# Altium footprint library 野火_F407霸天虎_V2_0_PCB封装库_AD格式.PcbLib: 63 footprints (part 2 of 4)
Each footprint in its own frame and in the unit in brackets; x right, y up, seen from the top. Pads: shape width x height; smd on the part's side, far side on the other; paste and mask are expansions set on the pad; w line width, h text height; cw(c..) or ccw(c..) is an arc to the next point about the centre after c.
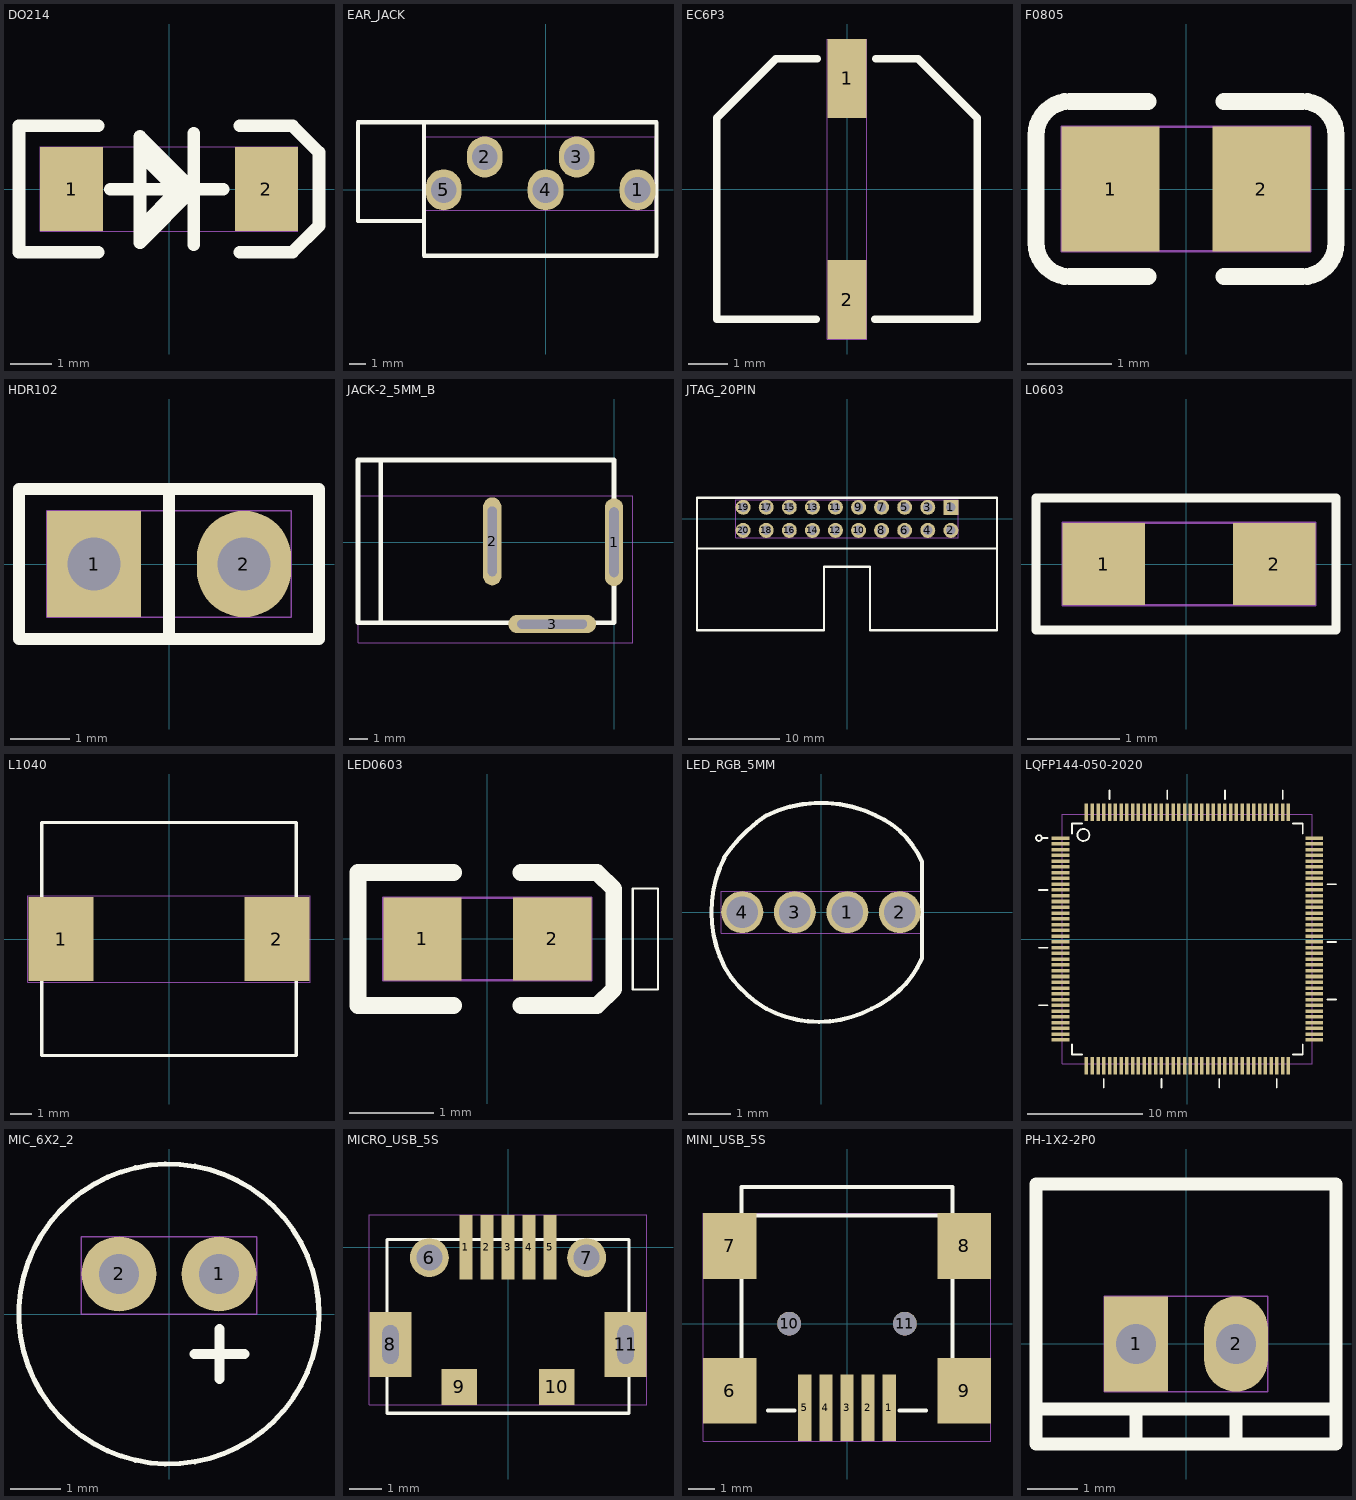
[diagram p1: the footprints below, top view; thin cyan lines are the x and y axes]

## DO214 [mil]
pads (2):
  rect 60x80 smd mask+2: 1(-92.5,0) 2(92.5,0)
Top Overlay:
  lines w1: -27.58,-25.06 -27.58,22.87 -1.5,22.87 -1.5,-25.06 -27.58,-25.06
  lines w12: -67.5,-60 -142.5,-60 -142.5,60 -67.5,60 ; -55.58,-0.13 51.42,-0.13 ; -27.58,33.87 7.79,-1.51 -25.84,-35.13 ; 23.42,-53.13 23.42,52.87 ; 67.5,-60 117.42,-60 142.5,-34.92 142.5,34.87 117.37,60 67.5,60 ; -27.58,-51.13 23.42,-0.13 23.42,-1.13 -27.58,49.87 -27.58,-51.13
Top Assembly:
  text "D3" at 38.93,25 h50
Mechanical 20:
  lines w1: -122.5,-40 122.5,-40 122.5,40 -122.5,40 -122.5,-40

## EAR_JACK [mil]
pads (5):
  oval 86x98 hole 62 mask+2: 1(220.47,0) 2(-145.67,78.74) 3(74.8,78.74) 4(0,0) 5(-244.1,0)
Top Overlay:
  lines w10: -294.49,-75.03 -449.49,-75.03 -449.49,161.97 -294.49,161.97 ; -291.49,-158.03 265.51,-158.03 265.51,161.97 -291.49,161.97 -291.49,-158.03
Top Assembly:
  text "J20" at 57.25,25 h50
Mechanical 20:
  lines w1: -287.1,-49 263.47,-49 263.47,127.74 -287.1,127.74 -287.1,-49

## EC6P3 [mm]
pads (2):
  rect 1x2 smd mask+0.051: 1(0,2.8) 2(0,-2.8)
Top Overlay:
  lines w0.2: -0.787,-3.3 -3.3,-3.3 -3.3,1.8 -1.8,3.3 -0.762,3.3 ; 0.711,-3.3 3.3,-3.3 3.3,1.8 1.8,3.3 0.737,3.3
Top Assembly:
  text "C98" at 1.621,0.635 h1.27
Mechanical 20:
  lines w0.025: -0.5,-3.8 0.5,-3.8 0.5,3.8 -0.5,3.8 -0.5,-3.8

## F0805 [mm]
pads (2):
  rect 1.16x1.47 smd mask+0.051: 1(-0.89,0) 2(0.89,0)
Top Overlay:
  lines w0.2: -0.45,-1.035 -1.37,-1.035 cw(c-1.37,-0.635) -1.77,-0.635 -1.77,0.635 cw(c-1.37,0.635) -1.37,1.035 -0.45,1.035 ; 0.45,-1.035 1.37,-1.035 ccw(c1.37,-0.635) 1.77,-0.635 1.77,0.635 ccw(c1.37,0.635) 1.37,1.035 0.45,1.035
Top Assembly:
  text "F1" at -0.617,-0.635 h1.27
Mechanical 20:
  lines w0.025: -1.47,-0.735 1.47,-0.735 1.47,0.735 -1.47,0.735 -1.47,-0.735

## HDR102 [mil]
pads (2):
  rect 62.99x70.87 / inner oval 62.99x70.87 / far side rect 62.99x70.87 hole 35.43 mask+1.97: 1(-50,0)
  oval 62.99x70.87 hole 35.43 mask+1.97: 2(50,0)
Top Overlay:
  lines w8: 0,-50 0,50 ; -100,-50 100,-50 100,50 -100,50 -100,-50
Top Assembly:
  text "J85" at -57.25,-25 h50
Mechanical 20:
  lines w1: -81.5,-35.43 81.5,-35.43 81.5,35.43 -81.5,35.43 -81.5,-35.43

## JACK-2_5MM_B [mm]
pads (3):
  oval 1x4.81 / inner oval 1x4.81 / far side oval 2x4.81 hole 0.5 slot 3.81 at 90 deg mask+0.05: 1(0,0) 2(-6.659,0.046)
  oval 4.81x1 / inner oval 4.81x1 / far side oval 4.81x2 hole 0.5 slot 3.81 at 0 deg mask+0.05: 3(-3.383,-4.475)
Top Overlay:
  lines w0.254: -12.755,-4.348 -12.755,4.501 ; -14,-4.399 -14,4.501 0,4.501 0,-4.399 -14,-4.399
Top Assembly:
  text "JACK1" at -2.446,-0.635 h1.27
Mechanical 20:
  lines w0.025: -14,-5.491 1.016,-5.491 1.016,2.535 -14,2.535 -14,-5.491

## JTAG_20PIN [mil]
pads (20):
  rect 65x65 hole 40 mask+2: 1(450,50)
  round 65 hole 40 mask+2: 2(450,-50) 3(350,50) 4(350,-50) 5(250,50) 6(250,-50) 7(150,50) 8(150,-50) 9(50,50) 10(50,-50) 11(-50,50) 12(-50,-50) 13(-150,50) 14(-150,-50) 15(-250,50) 16(-250,-50) 17(-350,50) 18(-350,-50) 19(-450,50) 20(-450,-50)
Top Overlay:
  lines w10: -650,-128.74 650,-128.74 ; -650,-483.07 -100,-483.07 -100,-207.48 100,-207.48 100,-483.07 650,-483.07 650,91.26 -650,91.26 -650,-483.07
Top Assembly:
  text "J45" at 57.25,25 h50
Mechanical 20:
  lines w1: -482.5,-82.5 482.5,-82.5 482.5,82.5 -482.5,82.5 -482.5,-82.5

## L0603 [mil]
pads (2):
  rect 35x35 smd mask+1.97: 1(-35,0) 2(37.49,0)
Top Overlay:
  lines w3.94: -63.74,-28 63.74,-28 63.74,28 -63.74,28 -63.74,-28
Top Assembly:
  text "L3" at -33.69,-25 h50
Mechanical 20:
  lines w1: -52.5,-17.5 54.99,-17.5 54.99,17.5 -52.5,17.5 -52.5,-17.5

## L1040 [mm]
pads (2):
  rect 3x3.9 smd mask+0.05: 1(-5,0) 2(5,0)
Top Overlay:
  lines w0.152: -5.9,-5.4 5.9,-5.4 5.9,5.4 -5.9,5.4 -5.9,-5.4
Top Assembly:
  text "L1" at 0.584,0.635 h1.27
Mechanical 20:
  lines w0.025: -6.55,-2 6.55,-2 6.55,2 -6.55,2 -6.55,-2

## LED0603 [mil]
pads (2):
  rect 36.61x38.58 smd mask+1.97: 1(-30.31,0) 2(30.32,0)
Top Overlay:
  lines w1: 67.91,-23.62 67.91,23.62 79.73,23.62 79.73,-23.62 67.91,-23.62
  lines w7.87: -15.75,-31.1 -60.43,-31.1 -60.43,31.1 -15.75,31.1 ; 15.75,-31.1 51.18,-31.1 59.06,-23.5 59.06,23.5 51.18,31.1 15.75,31.1
Top Assembly:
  text "D49" at 59.99,25 h50
Mechanical 20:
  lines w1: -48.62,-19.29 48.62,-19.29 48.62,19.29 -48.62,19.29 -48.62,-19.29

## LED_RGB_5MM [mm]
pads (4):
  round 1 hole 0.75 mask+0.05: 1(0.625,0) 2(1.875,0) 3(-0.625,0) 4(-1.875,0)
Top Overlay:
  lines w0.1: -2.301,1.297 ccw(c0.3,0) -2.299,-1.302 ; -2.299,-1.301 ccw(c0.05,0.05) -1.301,-2.299 ; -2.299,1.302 cw(c0.65,-0.65) -1.297,2.302 ; -1.3,-2.3 ccw(c-0.05,0.05) 1.2,-2.3 ; -1.299,2.301 cw(c0,-0.35) 1.303,2.298 ; 1.202,-2.299 ccw(c0.25,-0.15) 2.401,-1.098 ; 1.298,2.301 cw(c0.45,0.35) 2.399,1.202 ; 2.4,-1.1 2.4,1.2
Top Assembly:
  text "D6" at -0.958,-0.635 h1.27
Mechanical 20:
  lines w0.025: -2.375,-0.5 2.375,-0.5 2.375,0.5 -2.375,0.5 -2.375,-0.5

## LQFP144-050-2020 [mil]
pads (144):
  rect 60x12 smd mask+2: 1(-433.07,344.49) 2(-433.07,324.8) 3(-433.07,305.12) 4(-433.07,285.43) 5(-433.07,265.75) 6(-433.07,246.06) 7(-433.07,226.38) 8(-433.07,206.69) 9(-433.07,187.01) 10(-433.07,167.32) 11(-433.07,147.64) 12(-433.07,127.95) 13(-433.07,108.27) 14(-433.07,88.58) 15(-433.07,68.9) 16(-433.07,49.21) 17(-433.07,29.53) 18(-433.07,9.84) 19(-433.07,-9.84) 20(-433.07,-29.53) 21(-433.07,-49.21) 22(-433.07,-68.9) 23(-433.07,-88.58) 24(-433.07,-108.27) 25(-433.07,-127.95) 26(-433.07,-147.64) 27(-433.07,-167.32) 28(-433.07,-187.01) 29(-433.07,-206.69) 30(-433.07,-226.38) 31(-433.07,-246.06) 32(-433.07,-265.75) 33(-433.07,-285.43) 34(-433.07,-305.12) 35(-433.07,-324.8) 36(-433.07,-344.49) 73(433.07,-344.49) 74(433.07,-324.8) 75(433.07,-305.12) 76(433.07,-285.43) 77(433.07,-265.75) 78(433.07,-246.06) 79(433.07,-226.38) 80(433.07,-206.69) 81(433.07,-187.01) 82(433.07,-167.32) 83(433.07,-147.64) 84(433.07,-127.95) 85(433.07,-108.27) 86(433.07,-88.58) 87(433.07,-68.9) 88(433.07,-49.21) 89(433.07,-29.53) 90(433.07,-9.84) 91(433.07,9.84) 92(433.07,29.53) 93(433.07,49.21) 94(433.07,68.9) 95(433.07,88.58) 96(433.07,108.27) 97(433.07,127.95) 98(433.07,147.64) 99(433.07,167.32) 100(433.07,187.01) 101(433.07,206.69) 102(433.07,226.38) 103(433.07,246.06) 104(433.07,265.75) 105(433.07,285.43) 106(433.07,305.12) 107(433.07,324.8) 108(433.07,344.49)
  rect 12x60 smd mask+2: 37(-344.49,-433.07) 38(-324.8,-433.07) 39(-305.12,-433.07) 40(-285.43,-433.07) 41(-265.75,-433.07) 42(-246.06,-433.07) 43(-226.38,-433.07) 44(-206.69,-433.07) 45(-187.01,-433.07) 46(-167.32,-433.07) 47(-147.64,-433.07) 48(-127.95,-433.07) 49(-108.27,-433.07) 50(-88.58,-433.07) 51(-68.9,-433.07) 52(-49.21,-433.07) 53(-29.53,-433.07) 54(-9.84,-433.07) 55(9.84,-433.07) 56(29.53,-433.07) 57(49.21,-433.07) 58(68.9,-433.07) 59(88.58,-433.07) 60(108.27,-433.07) 61(127.95,-433.07) 62(147.64,-433.07) 63(167.32,-433.07) 64(187.01,-433.07) 65(206.69,-433.07) 66(226.38,-433.07) 67(246.06,-433.07) 68(265.75,-433.07) 69(285.43,-433.07) 70(305.12,-433.07) 71(324.8,-433.07) 72(344.49,-433.07) 109(344.49,433.07) 110(324.8,433.07) 111(305.12,433.07) 112(285.43,433.07) 113(265.75,433.07) 114(246.06,433.07) 115(226.38,433.07) 116(206.69,433.07) 117(187.01,433.07) 118(167.32,433.07) 119(147.64,433.07) 120(127.95,433.07) 121(108.27,433.07) 122(88.58,433.07) 123(68.9,433.07) 124(49.21,433.07) 125(29.53,433.07) 126(9.84,433.07) 127(-9.84,433.07) 128(-29.53,433.07) 129(-49.21,433.07) 130(-68.9,433.07) 131(-88.58,433.07) 132(-108.27,433.07) 133(-127.95,433.07) 134(-147.64,433.07) 135(-167.32,433.07) 136(-187.01,433.07) 137(-206.69,433.07) 138(-226.38,433.07) 139(-246.06,433.07) 140(-265.75,433.07) 141(-285.43,433.07) 142(-305.12,433.07) 143(-324.8,433.07) 144(-344.49,433.07)
Top Overlay:
  circle w6: c-506.89,344.49 r9.84
  circle w6: c-355,355 r20.62
  lines w6: -506.89,-226.38 -477.36,-226.38 ; -506.89,-29.53 -477.36,-29.53 ; -506.89,167.32 -477.36,167.32 ; -497.05,344.49 -477.36,344.49 ; -285.43,-506.89 -285.43,-477.36 ; -265.75,477.36 -265.75,506.89 ; -88.58,-506.89 -88.58,-477.36 ; -68.9,477.36 -68.9,506.89 ; 108.27,-506.89 108.27,-477.36 ; 127.95,477.36 127.95,506.89 ; 305.12,-506.89 305.12,-477.36 ; 324.8,477.36 324.8,506.89 ; 477.36,-206.69 506.89,-206.69 ; 477.36,-9.84 506.89,-9.84 ; 477.36,187.01 506.89,187.01 ; -393.7,-393.7 -393.7,-360 -393.7,-393.7 ; -393.7,-393.7 -360,-393.7 -393.7,-393.7 ; -393.7,393.7 -393.7,360 -393.7,393.7 ; -393.7,393.7 -360,393.7 -393.7,393.7 ; 393.7,-393.7 393.7,-360 393.7,-393.7 ; 393.7,-393.7 360,-393.7 393.7,-393.7 ; 393.7,393.7 360,393.7 393.7,393.7 ; 393.7,393.7 393.7,360 393.7,393.7
Top Assembly:
  text "U19" at -57.37,-25 h50
Mechanical 20:
  lines w1: -426.31,-426.31 -426.31,426.31 426.31,426.31 426.31,-426.31 -426.31,-426.31

## MIC_6X2_2 [mil]
pads (2):
  round 59.06 hole 31.5 mask+2: 1(39.37,31.5) 2(-39.37,31.5)
Top Overlay:
  circle w4: c0,0 r118.11
  lines w7.87: 19.92,-31.61 59.29,-31.61 ; 39.61,-51.3 39.61,-11.93
Top Assembly:
  text "P1" at -28.21,-25 h50
Mechanical 20:
  lines w1: -68.9,0 68.9,0 68.9,61.02 -68.9,61.02 -68.9,0

## MICRO_USB_5S [mm]
pads (11):
  rect 0.4x2 smd mask+0.05: 1(-1.3,0) 2(-0.65,0) 3(0,0) 4(0.65,0) 5(1.3,0)
  round 1.2 hole 0.8 mask+0.05: 6(-2.425,-0.32) 7(2.425,-0.32)
  rect 1.3x2 hole 0.5 slot 1.2 at 90 deg mask+0.05: 8(-3.625,-3) 11(3.625,-3)
  rect 1.1x1.1 smd mask+0.05: 9(-1.5,-4.31) 10(1.5,-4.31)
Top Overlay:
  lines w0.1: -3.73,-5.12 3.73,-5.12 ; -3.73,-5.12 -3.73,0.235 ; -3.73,-5.12 3.73,-5.12 ; -3.73,-5.12 -3.73,0.235 ; -3.73,0.235 3.73,0.235 ; -3.73,0.235 3.73,0.235 ; 3.73,-5.12 3.73,0.235 ; 3.73,-5.12 3.73,0.235
Top Assembly:
  text "J24" at -1.484,-0.635 h1.27
Mechanical 20:
  lines w0.025: -4.275,-4.86 4.275,-4.86 4.275,1 -4.275,1 -4.275,-4.86

## MINI_USB_5S [mil]
pads (11):
  rect 20x100 smd mask+2.5: 1(62.99,-125.98) 2(31.5,-125.98) 3(0,-125.98) 4(-31.5,-125.98) 5(-62.99,-125.98)
  rect 80x98.43 smd mask+2.5: 6(-175.2,-100.39) 7(-175.2,116.14) 8(175.2,116.14) 9(175.2,-100.39)
  round 35.43 hole 35.43 unplated mask+1.97: 10(-86.61,0) 11(86.61,0)
Top Overlay:
  lines w6: -157.48,-59.06 -157.48,74.8 ; -157.48,157.48 -157.48,204.72 157.48,204.72 157.48,157.48 ; -157.48,161.42 157.48,161.42 ; -118.11,-129.92 -78.74,-129.92 ; 78.74,-129.92 118.11,-129.92 ; 157.48,-59.06 157.48,74.8
Top Assembly:
  text "J8" at -35,-25 h50
Mechanical 20:
  lines w1: -215.2,-175.98 215.2,-175.98 215.2,165.35 -215.2,165.35 -215.2,-175.98

## PH-1X2-2P0 [mil]
pads (2):
  rect 50x75 hole 31.5 mask+2.5: 1(-39.37,0)
  oval 50x75 hole 31.5 mask+2.5: 2(39.37,0)
Top Overlay:
  lines w10: -118.11,-51.18 118.11,-51.18 ; -39.37,-78.74 -39.37,-51.18 ; 39.37,-78.74 39.37,-51.18 ; -118.11,-78.74 118.11,-78.74 118.11,125.98 -118.11,125.98 -118.11,-78.74
Top Assembly:
  text "J22" at 57.25,25 h50
Mechanical 20:
  lines w1: -64.37,-37.5 64.37,-37.5 64.37,37.5 -64.37,37.5 -64.37,-37.5